# EAGLE library part MP6539BGV-P (library MP6539BGV-P)
Motor / Motion / Ignition Controllers & Drivers 100V, Three-Phase BLDC Motor Pre-Driver Source: Datasheet <https://www.monolithicpower.com/en/documentview/productdocument/index/version/2/document_type/Datasheet/lang/en/sku/MP6539B/document_id/5051/>
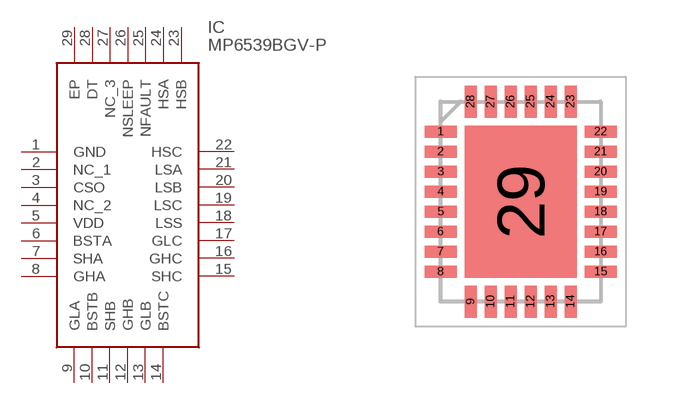
[diagram p0: symbol with the pads of QFN50P400X500X100-29N; footprint QFN50P400X500X100-29N]

Designator prefix IC

## MP6539BGV-P (Description: Motor / Motion / Ignition Controllers & Drivers 100V, Three-Phase BLDC Motor Pre-Driver; Height: 1mm; Manufacturer_Name: Monolithic Power Systems (MPS); Manufacturer_Part_Number: MP6539BGV-P; Mouser_Part_Number: 946-MP6539BGV-P; Mouser_Price-Stock: https://www.mouser.co.uk/ProductDetail/Monolithic-Power-Systems-MPS/MP6539BGV-P?qs=%252B6g0mu59x7LXLktXwsZfUQ%3D%3D)  [QFN50P400X500X100-29N]
1  GND
2  NC_1
3  CSO
4  NC_2
5  VDD
6  BSTA
7  SHA
8  GHA
9  GLA
10  BSTB
11  SHB
12  GHB
13  GLB
14  BSTC
15  SHC
16  GHC
17  GLC
18  LSS
19  LSC
20  LSB
21  LSA
22  HSC
23  HSB
24  HSA
25  NFAULT
26  NSLEEP
27  NC_3
28  DT
29  EP

## Footprint QFN50P400X500X100-29N (pad centres in mm)
QFN28
smd 0.8 x 0.3: 1 -2,1.75; 2 -2,1.25; 3 -2,0.75; 4 -2,0.25; 5 -2,-0.25; 6 -2,-0.75; 7 -2,-1.25; 8 -2,-1.75; 15 2,-1.75; 16 2,-1.25; 17 2,-0.75; 18 2,-0.25; 19 2,0.25; 20 2,0.75; 21 2,1.25; 22 2,1.75
smd 0.3 x 0.8: 9 -1.25,-2.5; 10 -0.75,-2.5; 11 -0.25,-2.5; 12 0.25,-2.5; 13 0.75,-2.5; 14 1.25,-2.5; 23 1.25,2.5; 24 0.75,2.5; 25 0.25,2.5; 26 -0.25,2.5; 27 -0.75,2.5; 28 -1.25,2.5
smd 2.8 x 3.8: 29 0,0